# Altium footprint library PCBFeatures.PcbLib: 3 footprints
Each footprint in its own frame and in the unit in brackets; x right, y up, seen from the top. Pads: shape width x height; smd on the part's side, far side on the other; paste and mask are expansions set on the pad; w line width, h text height; cw(c..) or ccw(c..) is an arc to the next point about the centre after c.
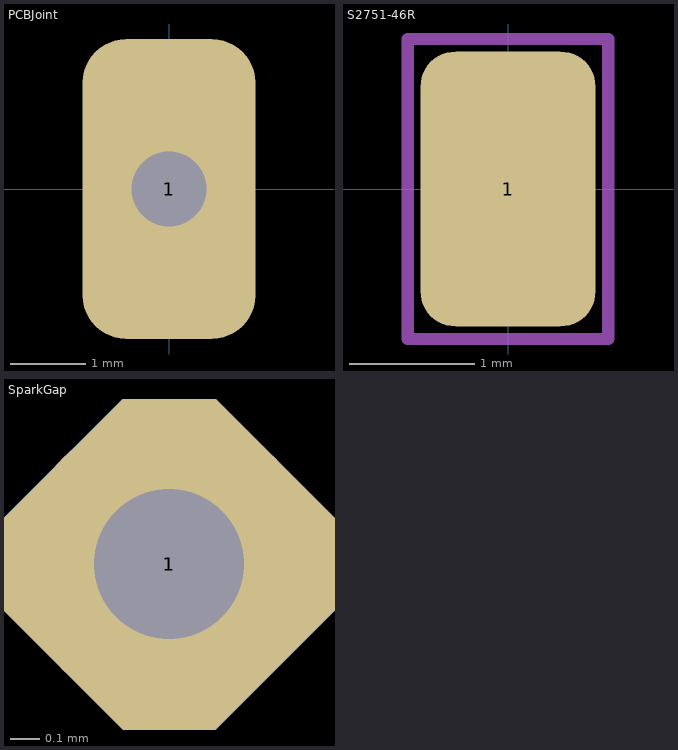
[diagram p0: the footprints below, top view; thin cyan lines are the x and y axes]

## PCBJoint [mm]
pads (1):
  rrect50% 2.3x4 hole 1 paste-99: 1(0,0)

## S2751-46R [mm]
pads (1):
  rrect40% 1.4x2.2 smd paste-0.051 mask+0.09: 1(0,0)
Assembly:
  lines w0.1: -0.8,-1.2 -0.8,-0.1 -0.8,1.2 0.8,1.2 0.8,-1.2 -0.8,-1.2
  text ".Designator" at 0.2,-1.1 h0.7
3D body "s2751-46r.stp": height 1.38, standoff -0.04, extent -0.6,-1 0.6,1

## SparkGap [mil]
pads (2):
  rect 40x40 smd rot 45 paste-99 mask+4: 1(0,0)
  rect 40x40 smd far side rot 45 paste-99 mask+4: 1(0,0)
via 0,0 diameter 40 hole 20